# Altium footprint library ESC.PcbLib: 51 footprints (part 1 of 4)
Each footprint in its own frame and in the unit in brackets; x right, y up, seen from the top. Pads: shape width x height; smd on the part's side, far side on the other; paste and mask are expansions set on the pad; w line width, h text height; cw(c..) or ccw(c..) is an arc to the next point about the centre after c.
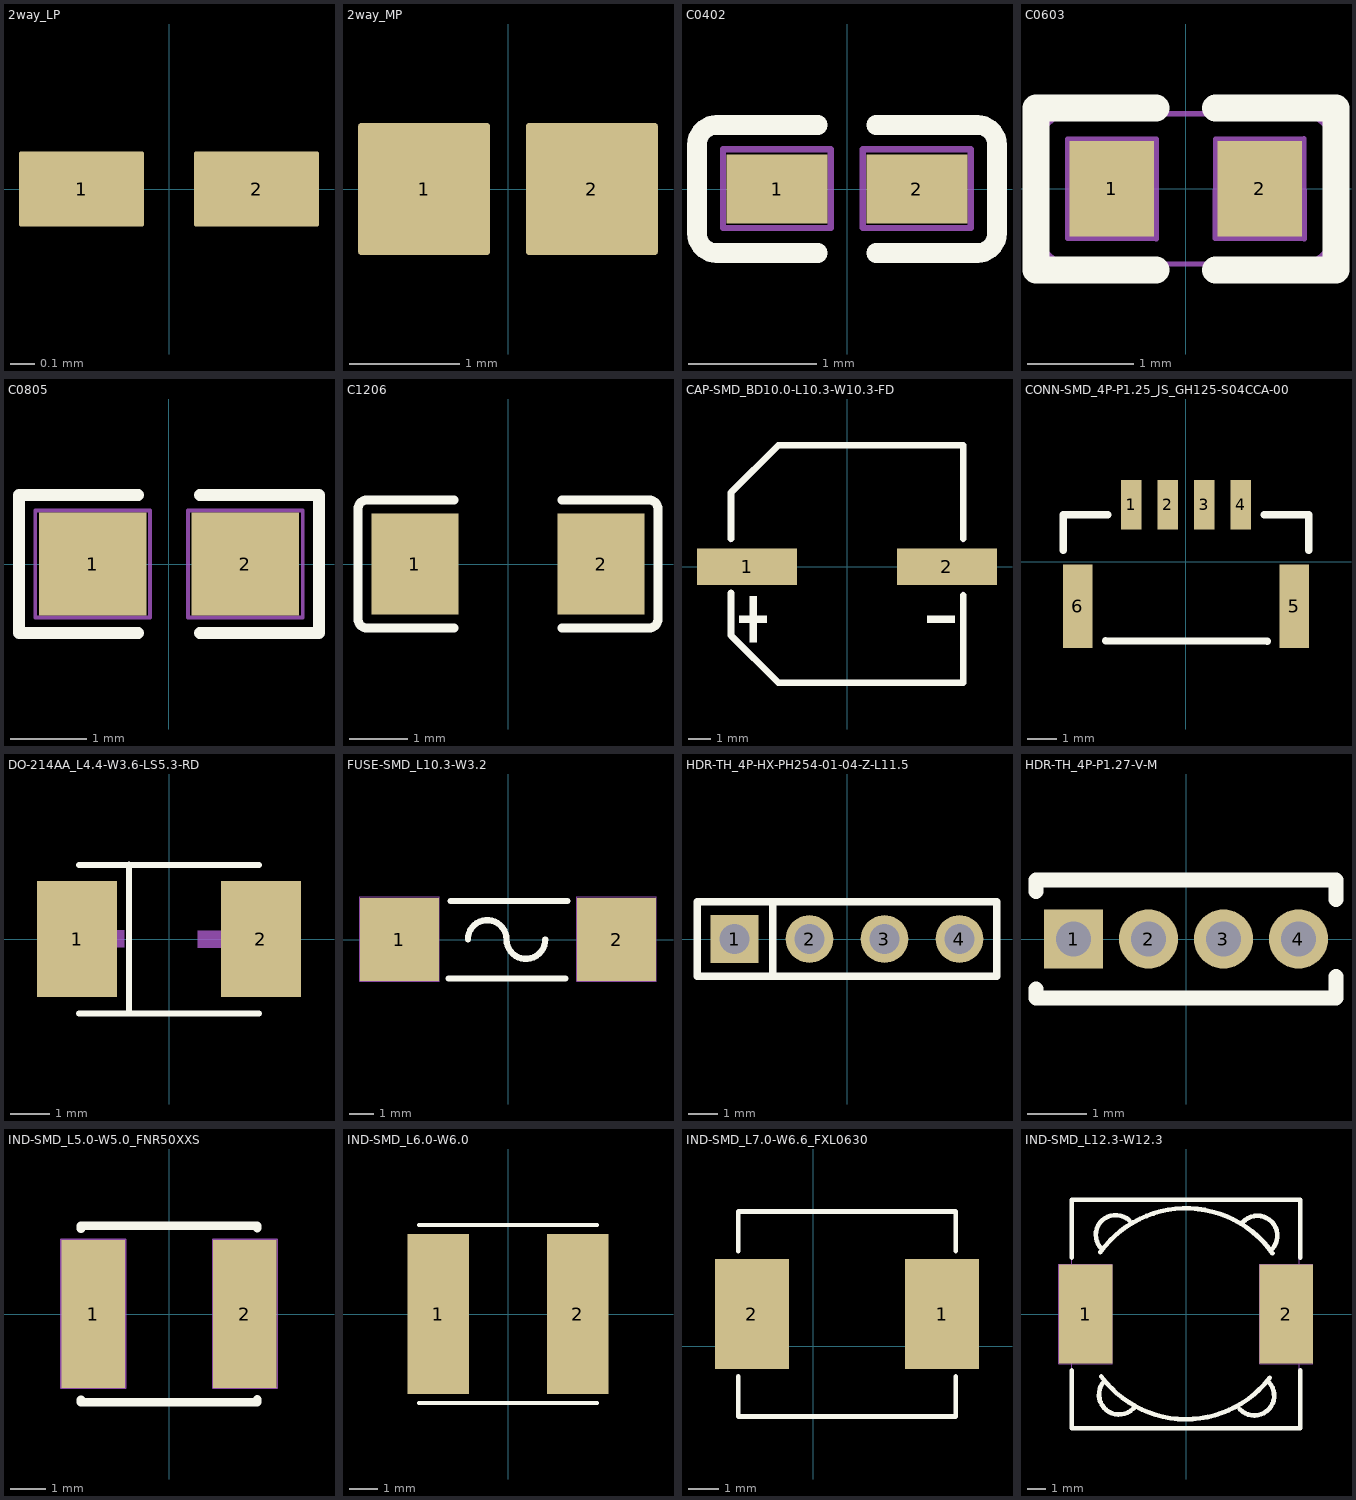
[diagram p0: the footprints below, top view; thin cyan lines are the x and y axes]

## 2way_LP [mil] "2 way low power net tie junction"
height 1
pads (2):
  rrect5% 20x12 smd paste-100 mask+4: 1(-14,0) 2(14,0)

## 2way_MP [mm] "2 way medium power net tie junction"
height 0.025
pads (2):
  rrect5% 1.2x1.2 smd paste-2.54: 1(-0.762,0) 2(0.762,0)

## C0402 [mm] "cap"
height 0.55
pads (2):
  rect 0.79x0.54 smd paste+0 mask+0.05: 1(-0.545,0) 2(0.545,0)
Top Overlay:
  lines w0.152: -0.226,-0.499 -1.016,-0.499 cw(c-1.016,-0.346) -1.169,-0.346 -1.169,0.346 cw(c-1.016,0.346) -1.016,0.499 -0.226,0.499 ; 0.226,-0.499 1.016,-0.499 ccw(c1.016,-0.346) 1.169,-0.346 1.169,0.346 ccw(c1.016,0.346) 1.016,0.499 0.226,0.499
Top Paste:
  region: 0.78,0.225 0.78,-0.225 0.73,-0.275 0.25,-0.275 0.18,-0.225 0.18,0.225 0.25,0.275 0.73,0.275
  region: -0.18,0.225 -0.18,-0.225 -0.25,-0.275 -0.73,-0.275 -0.78,-0.225 -0.78,0.225 -0.73,0.275 -0.25,0.275
Mechanical 2:
  lines w0.05: -0.226,-0.499 -1.016,-0.499 cw(c-1.016,-0.346) -1.169,-0.346 -1.169,0.346 cw(c-1.016,0.346) -1.016,0.499 -0.226,0.499 ; 0.226,-0.499 1.016,-0.499 ccw(c1.016,-0.346) 1.169,-0.346 1.169,0.346 ccw(c1.016,0.346) 1.016,0.499 0.226,0.499 ; -0.966,-0.303 -0.966,0.311 -0.126,0.31 -0.127,-0.304 -0.966,-0.303 ; 0.124,-0.303 0.124,0.311 0.964,0.31 0.963,-0.304 0.124,-0.303
3D body "User Library-CAP_NP_0402_10Lx05Wx06H.sldprt": height 0.53, standoff 0, extent -0.523,-0.267 0.517,0.258

## C0603 [mm] "cap 0603"
height 0.85
pads (2):
  rect 0.8x0.9 smd paste+0 mask+0.051: 1(-0.7,0) 2(0.7,0)
Top Overlay:
  lines w0.254: -0.28,-0.766 -1.415,-0.766 -1.415,0.763 -0.28,0.763 ; 0.28,-0.769 1.42,-0.769 1.42,0.764 0.28,0.764
Mechanical 2:
  lines w0.05: 1.08,-0.71 ccw(c1.08,-0.4) 1.39,-0.4 1.39,0.4 ccw(c1.08,0.4) 1.08,0.71 ; 1.08,-0.71 0.28,-0.71 -0.28,-0.71 -1.08,-0.71 cw(c-1.08,-0.4) -1.39,-0.4 -1.39,0.4 cw(c-1.08,0.4) -1.08,0.71 -0.28,0.71 0.28,0.71 1.08,0.71 ; -1.117,-0.47 -1.114,0.468 -0.279,0.471 -0.277,-0.473 -1.117,-0.47 ; 0.28,-0.468 0.283,0.469 1.118,0.472 1.119,-0.472 0.28,-0.468
3D body "User Library-C0603-2.sldprt": height 0.8, standoff 0, extent -0.81,-0.396 0.79,0.404

## C0805 [mm]
height 0.025
pads (2):
  rect 1.41x1.35 smd paste-100 mask+0.05: 1(-1,0)
  rect 1.41x1.35 smd paste-100 mask+0.051: 2(1,0)
Top Overlay:
  lines w0.152: -0.401,-0.904 -1.964,-0.904 -1.964,0.904 -0.401,0.904 ; 0.401,-0.904 1.964,-0.904 1.964,0.904 0.401,0.904
Top Paste:
  region: -1.705,-0.64 -1.705,0.64 -1.655,0.69 -0.505,0.69 -0.455,0.64 -0.45,0.23 -0.9,0.23 -0.9,-0.22 -0.46,-0.22 -0.455,-0.64 -0.505,-0.69 -1.655,-0.69
  region: 1.705,0.64 1.705,-0.64 1.655,-0.69 0.505,-0.69 0.455,-0.64 0.45,-0.23 0.9,-0.23 0.9,0.22 0.46,0.22 0.455,0.64 0.505,0.69 1.655,0.69
Mechanical 2:
  lines w0.05: -0.401,-0.904 -1.811,-0.904 cw(c-1.811,-0.751) -1.964,-0.751 -1.964,0.751 cw(c-1.811,0.751) -1.811,0.904 -0.401,0.904 ; 0.401,-0.904 1.811,-0.904 ccw(c1.811,-0.751) 1.964,-0.751 1.964,0.751 ccw(c1.811,0.751) 1.811,0.904 0.401,0.904 ; -1.75,-0.7 -1.75,0.7 -0.25,0.7 -0.25,-0.7 -1.75,-0.7 ; 0.25,-0.7 0.25,0.7 1.75,0.7 1.75,-0.7 0.25,-0.7
3D body "CAP_0805_SAM.step": height 0.71, standoff 0, extent -1.304,-0.673 0.804,0.673

## C1206 [mm] "1206"
height 0.86
pads (2):
  rect 1.485x1.728 smd paste-100 mask+0.051: 1(-1.593,0) 2(1.593,0)
Top Overlay:
  lines w0.152: -0.926,-1.093 -2.411,-1.093 cw(c-2.411,-0.94) -2.564,-0.94 -2.564,0.94 cw(c-2.411,0.94) -2.411,1.093 -0.926,1.093 ; 0.926,-1.093 2.411,-1.093 ccw(c2.411,-0.94) 2.564,-0.94 2.564,0.94 ccw(c2.411,0.94) 2.411,1.093 0.926,1.093
Top Paste:
  region: 0.85,-0.764 0.85,-0.394 0.95,-0.294 1.255,-0.294 1.355,-0.194 1.355,0.194 1.255,0.294 0.95,0.294 0.85,0.394 0.85,0.764 0.95,0.864 2.235,0.864 2.335,0.764 2.335,-0.764 2.235,-0.864 0.95,-0.864
  region: -0.85,-0.764 -0.85,-0.394 -0.95,-0.294 -1.255,-0.294 -1.355,-0.194 -1.355,0.194 -1.255,0.294 -0.95,0.294 -0.85,0.394 -0.85,0.764 -0.95,0.864 -2.235,0.864 -2.335,0.764 -2.335,-0.764 -2.235,-0.864 -0.95,-0.864
3D body "User Library-User Library-1206_Cap.step": height 1.25, standoff 0, extent -2.22,-0.8 2.32,0.8

## CAP-SMD_BD10.0-L10.3-W10.3-FD [mm] "SMD,D10xL12.5mm"
height 10.3
pads (2):
  rect 4.5x1.65 smd paste+0 mask+0.051: 1(-4.5,0) 2(4.5,0)
Top Overlay:
  region: 4.841,-2.214 4.841,-2.523 3.605,-2.523 3.605,-2.214
  region: -4.841,-2.214 -4.841,-2.523 -3.605,-2.523 -3.605,-2.214
  region: -4.378,-1.339 -4.378,-3.399 -4.068,-3.399 -4.068,-1.339
  lines w0.3: -5.224,1.256 -5.224,3.33 -3.087,5.467 5.229,5.467 5.229,1.252 ; -5.223,-1.184 -5.223,-3.093 -3.09,-5.226 5.226,-5.226 5.226,-1.299
Mechanical 2:
  lines w0.05: -5.226,-1.09 -5.226,-3.09 -3.09,-5.226 5.226,-5.226 5.226,-1.138 ; -5.224,1.093 -5.224,3.33 -3.087,5.467 5.229,5.467 5.229,1.093
Mechanical 15:
  region: 4.841,0.155 4.841,-0.155 3.605,-0.155 3.605,0.155
  region: -4.841,0.155 -4.841,-0.155 -3.605,-0.155 -3.605,0.155
3D body "EEEFK2A330L.STEP": height 10.3, standoff 0.1, extent -5.601,-4.979 6.099,5.321

## CONN-SMD_4P-P1.25_JS_GH125-S04CCA-00 [mm]
pads (6):
  rect 0.7x1.68 smd paste+0 mask+0.05: 1(-1.875,1.941) 2(-0.625,1.941) 3(0.625,1.941) 4(1.875,1.941)
  rect 1x2.85 smd paste+0 mask+0.05: 5(3.705,-1.524) 6(-3.705,-1.524)
Top Overlay:
  lines w0.254: -4.191,0.381 -4.191,1.606 -2.667,1.606 ; -2.753,-2.716 2.785,-2.72 ; 2.667,1.606 4.191,1.606 4.191,0.381

## DO-214AA_L4.4-W3.6-LS5.3-RD [mm]
pads (2):
  rect 2.024x2.94 smd paste+0 mask+0.051: 1(-2.322,-0.002) 2(2.322,-0.002)
Top Overlay:
  lines w0.152: -2.276,-1.878 2.276,-1.878 ; -2.276,1.874 2.276,1.874 ; -1.016,-1.874 -1.016,1.878
Mechanical 15:
  region: 1.808,-1.442 1.808,1.438 1.376,1.438 1.376,-1.442
  region: -2.858,-0.205 -2.858,0.227 -1.13,0.227 -1.13,-0.205
  region: 2.456,-0.218 2.456,0.214 0.728,0.214 0.728,-0.218
3D body "SMB (DO-214AA).STEP": height 2.5, standoff 0, extent -2.678,-1.934 2.722,1.966

## FUSE-SMD_L10.3-W3.2 [mm]
pads (2):
  rect 3.25x3.43 smd paste+0 mask+0.051: 1(-4.485,0) 2(4.485,0)
Top Overlay:
  lines w0.254: -2.454,-1.6 2.372,-1.6 ; -2.375,1.6 2.451,1.6 ; -1.66,0.005 cw(c-0.86,0.005) -0.06,0.005 ccw(c0.74,0.005) 1.54,0.005
Mechanical 2:
  lines w0.05: -6.136,-1.725 -6.136,1.778 -2.834,1.778 -2.834,-1.6 -2.834,-1.725 -6.136,-1.725 ; 2.834,-1.725 2.834,1.778 6.136,1.778 6.136,-1.6 6.136,-1.725 2.834,-1.725

## HDR-TH_4P-HX-PH254-01-04-Z-L11.5 [mm] "Through Hole,P=2.54mm"
height 4.7
pads (4):
  rect 1.62x1.62 hole 1.02 paste-2539.97 mask+0.051: 1(-3.81,0)
  round 1.62 hole 1.02 paste-2539.97 mask+0.051: 2(-1.27,0) 3(1.27,0) 4(3.81,0)
Top Overlay:
  lines w0.254: -2.516,-1.27 -2.516,1.27 ; -2.516,1.27 5.08,1.27 5.08,-1.27 -5.08,-1.27 -5.08,1.27 -2.516,1.27

## HDR-TH_4P-P1.27-V-M [mm] "PITCH 1.27"
pads (4):
  rect 1x1 hole 0.6 paste-2539.97 mask+0.051: 1(-1.905,0)
  round 1 hole 0.6 paste-2539.97 mask+0.051: 2(-0.635,0) 3(0.635,0) 4(1.905,0)
Top Overlay:
  lines w0.254: -2.54,-0.845 -2.54,-1 2.54,-1 2.54,-0.634 ; -2.54,0.808 -2.54,1 2.54,1 2.54,0.67

## IND-SMD_L5.0-W5.0_FNR50XXS [mm] "SMD,5x5mm"
pads (2):
  rect 1.8x4.2 smd paste+0 mask+0.051: 1(-2.15,0) 2(2.15,0)
Top Overlay:
  lines w0.254: -2.5,-2.437 -2.5,-2.5 2.5,-2.5 2.5,-2.421 ; -2.5,2.423 -2.5,2.5 2.5,2.5 2.5,2.432
Mechanical 2:
  lines w0.05: -3.06,-2.1 -1.234,-2.1 -1.234,2.116 -3.06,2.116 -3.06,-2.1 ; 1.24,-2.1 3.066,-2.1 3.066,2.116 1.24,2.116 1.24,-2.1
Mechanical 13:
  lines w0.05: -2.5,-2.437 -2.5,-2.5 2.5,-2.5 2.5,-2.421 ; -2.5,2.423 -2.5,2.5 2.5,2.5 2.5,2.432
3D body "User Library-FNR5040S.step": height 4, standoff 0, extent -2.5,-2.5 2.5,2.5

## IND-SMD_L6.0-W6.0 [mm] "SMD,6x6mm"
pads (2):
  rect 2.2x5.72 smd paste+0 mask+0.051: 1(-2.5,0) 2(2.5,0)
Top Overlay:
  lines w0.152: -3.176,-3.176 3.176,-3.176 ; -3.176,3.176 3.176,3.176
3D body "SRN6045TA-470M--3DModel-STEP-56544.STEP": height 4.5, standoff 0, extent -3,-3 3,3

## IND-SMD_L7.0-W6.6_FXL0630 [mm] "SMD,7x6.6mm"
height 3
pads (2):
  rect 2.424x3.62 smd paste+0 mask+0.051: 1(4.236,1.067) 2(-2.02,1.067)
Top Overlay:
  lines w0.152: -2.468,-0.98 -2.468,-2.309 4.685,-2.309 4.685,-0.992 ; -2.468,3.127 -2.468,4.443 4.685,4.443 4.685,3.139
3D body "IND_FXL0630_CMT.step": height 3, standoff 0, extent -2.537,-2.365 4.753,4.443

## IND-SMD_L12.3-W12.3 [mm] "SMD,12.3x12.3mm"
height 8
pads (2):
  rect 2.9x5.4 smd paste+0 mask+0.051: 1(-5.45,0) 2(5.45,0)
Top Overlay:
  lines w0.254: -6.2,-3.066 -6.2,-6.2 6.2,-6.2 6.2,-3.062 ; -6.2,3.073 -6.2,6.2 6.2,6.2 6.2,3.057 ; -4.666,3.348 cw(c0,0) 4.7,3.3 ; -4.6,-3.4 ccw(c0,0) 4.552,-3.464 ; -4.55,3.504 cw(c-3.822,4.299) -3.1,5.1 ; -4.534,-3.759 ccw(c-3.641,-4.378) -2.758,-5.011 ; 2.927,-5.176 ccw(c3.711,-4.435) 4.5,-3.7 ; 3.088,4.988 cw(c3.883,4.26) 4.683,3.538
Mechanical 2:
  lines w0.05: -6.905,2.7 -6.905,-2.705 -4,-2.705 -4,2.7 -6.9,2.7 ; 3.995,2.7 3.995,-2.705 6.9,-2.705 6.9,2.7 4,2.7 ; -6.2,-6.15 6.15,-6.15 6.15,6.15 -6.2,6.15 -6.2,-6.15
3D body "IND_CDRH127LDNP-470MC_SUM.step": height 8, standoff 0, extent -6.147,-6.149 6.147,6.149